# Altium integrated library NSC MiscPower.IntLib: 675 symbols (part 17 of 17)
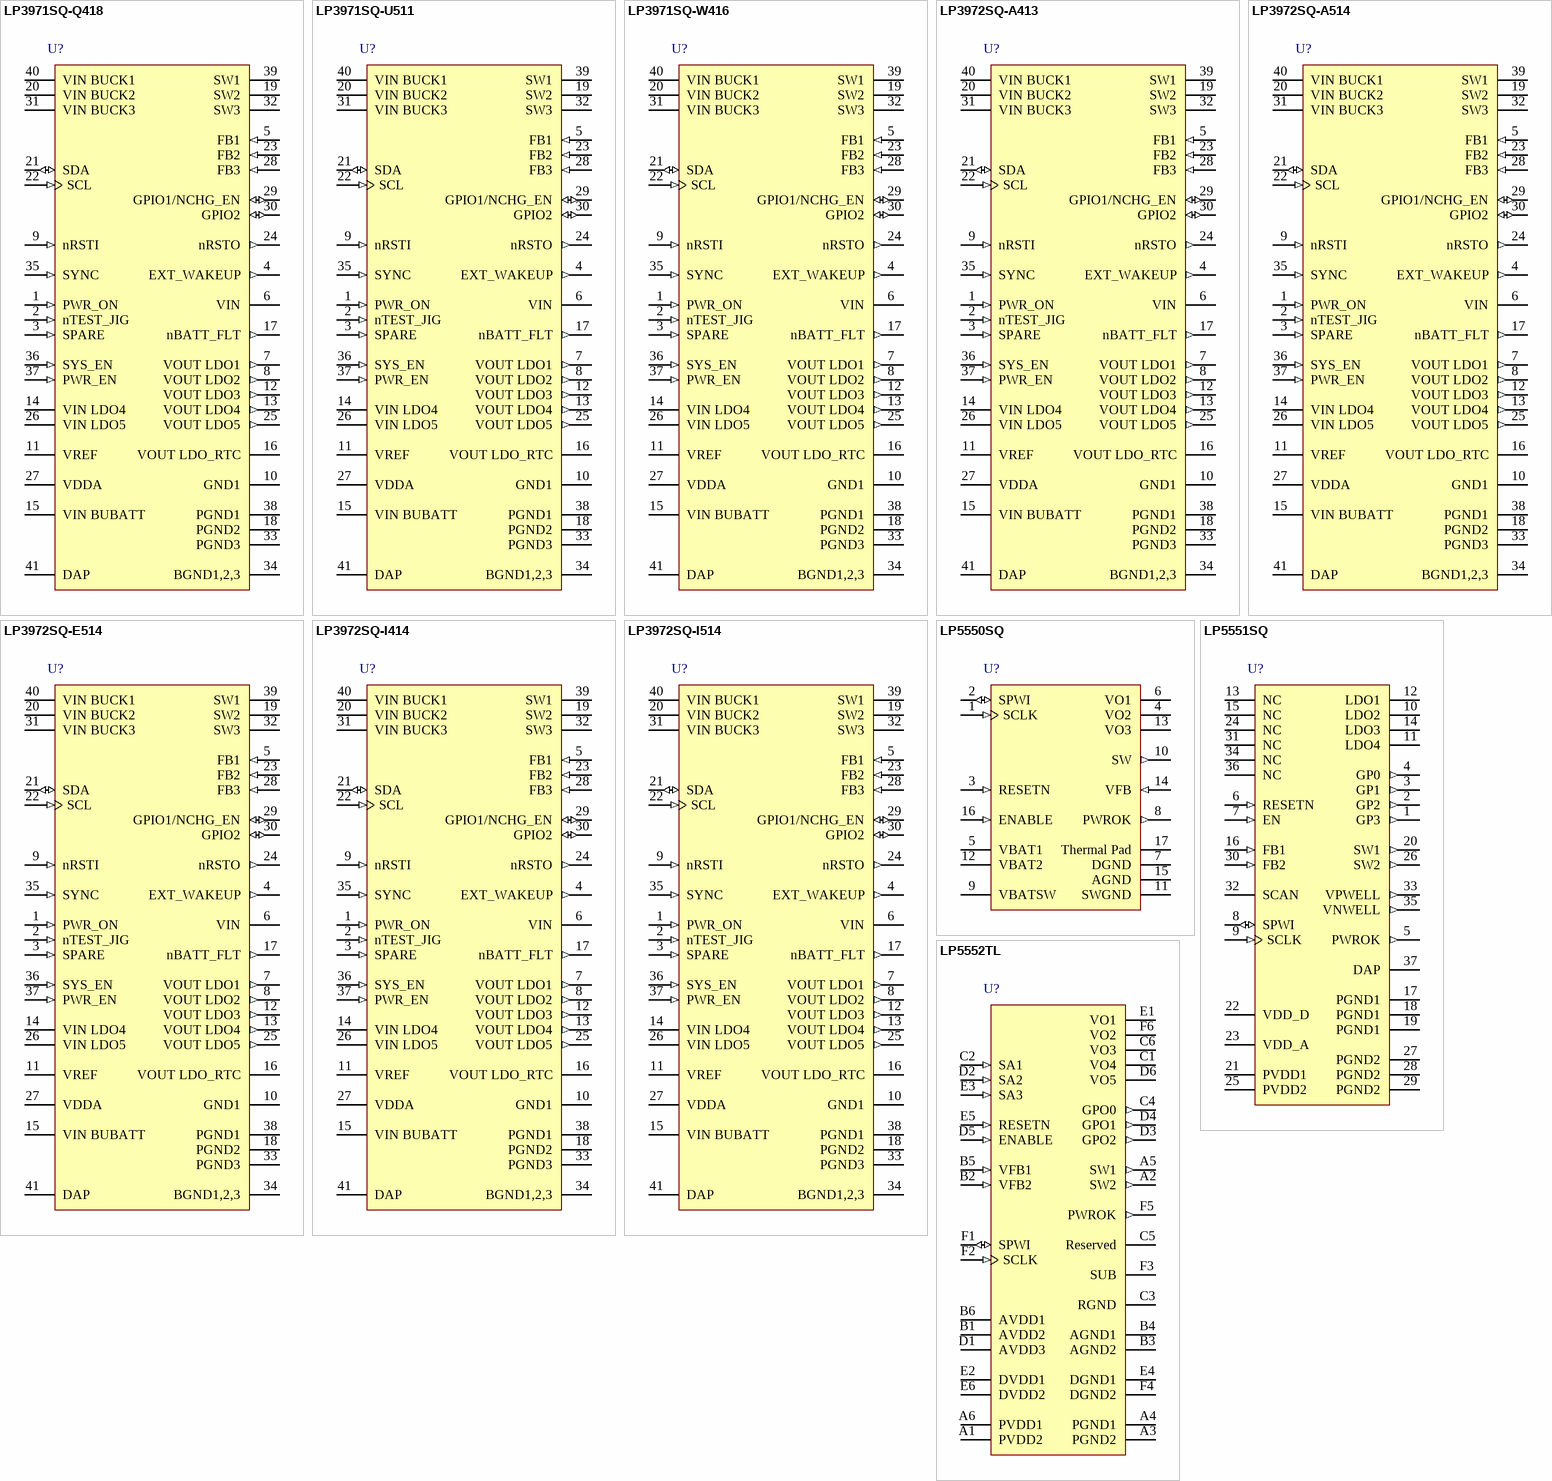
[diagram p38: symbols LP3971SQ-Q418 to LP5552TL]

## LP3971SQ-Q418
designator U?
Power Management Unit for Advanced Application Processors; PartNumber: LP3971SQ-Q418; Manufacturer: National Semiconductor; CompType: MiscPower; PackageTopMarking: NS*UZXYTT*71-Q418; Published: 4-Dec-2008; DatasheetVersion: Jul-2008; PackageVersion: revB, Jul-2004; PackageReference: SQF40A; Publisher: Altium Limited; PackageDescription: LLP, Quad, 5 x 5 x 0.8mm Body, 40 Lead, 0.4mm Pitch, 3.6 x 3.6mm Exposed Pad; RoHS: Y; PinCount: 40; DigiKeyPartNumber: LP3971SQ-Q418CT-ND; ComponentLink1Description: LP3971 Datasheet; ComponentLink1URL: http://www.national.com/ds/LP/LP3971.pdf; ComponentLink2Description: LP3971 Web Page; ComponentLink2URL: http://www.national.com/pf/LP/LP3971.html; ComponentLink3Description: SQF40A Package Page; ComponentLink3URL: http://www.national.com/packaging/folders/sqf40a.html
footprint SQF40A (QFN, 40-Leads, Body 5x5 mm, Pitch 0.4mm, NSC Recommended)
pins: 1 PWR_ON (in), 2 nTEST_JIG (in), 3 SPARE (in), 4 EXT_WAKEUP (out), 5 FB1 (in), 6 VIN (power), 7 VOUT LDO1 (out), 8 VOUT LDO2 (out), 9 nRSTI (in), 10 GND1 (power), 11 VREF, 12 VOUT LDO3 (out), 13 VOUT LDO4 (out), 14 VIN LDO4 (power), 15 VIN BUBATT (power), 16 VOUT LDO_RTC (power), 17 nBATT_FLT (out), 18 PGND2 (power), 19 SW2 (power), 20 VIN BUCK2 (power), 21 SDA (io), 22 SCL (in), 23 FB2 (in), 24 nRSTO (out), 25 VOUT LDO5 (out), 26 VIN LDO5 (power), 27 VDDA (power), 28 FB3 (in), 29 GPIO1/NCHG_EN (io), 30 GPIO2 (io), 31 VIN BUCK3 (power), 32 SW3 (power), 33 PGND3 (power), 34 BGND1,2,3 (power), 35 SYNC (in), 36 SYS_EN (in), 37 PWR_EN (in), 38 PGND1 (power), 39 SW1 (power), 40 VIN BUCK1 (power), 41 DAP (power)

## LP3971SQ-U511
designator U?
Power Management Unit for Advanced Application Processors; PartNumber: LP3971SQ-U511; Manufacturer: National Semiconductor; CompType: MiscPower; PackageTopMarking: NS*UZXYTT*71-U511; Published: 4-Dec-2008; DatasheetVersion: Jul-2008; PackageVersion: revB, Jul-2004; PackageReference: SQF40A; Publisher: Altium Limited; PackageDescription: LLP, Quad, 5 x 5 x 0.8mm Body, 40 Lead, 0.4mm Pitch, 3.6 x 3.6mm Exposed Pad; RoHS: Y; PinCount: 40; ComponentLink1Description: LP3971 Datasheet; ComponentLink1URL: http://www.national.com/ds/LP/LP3971.pdf; ComponentLink2Description: LP3971 Web Page; ComponentLink2URL: http://www.national.com/pf/LP/LP3971.html; ComponentLink3Description: SQF40A Package Page; ComponentLink3URL: http://www.national.com/packaging/folders/sqf40a.html
footprint SQF40A (QFN, 40-Leads, Body 5x5 mm, Pitch 0.4mm, NSC Recommended)
pins: 1 PWR_ON (in), 2 nTEST_JIG (in), 3 SPARE (in), 4 EXT_WAKEUP (out), 5 FB1 (in), 6 VIN (power), 7 VOUT LDO1 (out), 8 VOUT LDO2 (out), 9 nRSTI (in), 10 GND1 (power), 11 VREF, 12 VOUT LDO3 (out), 13 VOUT LDO4 (out), 14 VIN LDO4 (power), 15 VIN BUBATT (power), 16 VOUT LDO_RTC (power), 17 nBATT_FLT (out), 18 PGND2 (power), 19 SW2 (power), 20 VIN BUCK2 (power), 21 SDA (io), 22 SCL (in), 23 FB2 (in), 24 nRSTO (out), 25 VOUT LDO5 (out), 26 VIN LDO5 (power), 27 VDDA (power), 28 FB3 (in), 29 GPIO1/NCHG_EN (io), 30 GPIO2 (io), 31 VIN BUCK3 (power), 32 SW3 (power), 33 PGND3 (power), 34 BGND1,2,3 (power), 35 SYNC (in), 36 SYS_EN (in), 37 PWR_EN (in), 38 PGND1 (power), 39 SW1 (power), 40 VIN BUCK1 (power), 41 DAP (power)

## LP3971SQ-W416
designator U?
Power Management Unit for Advanced Application Processors; PartNumber: LP3971SQ-W416; Manufacturer: National Semiconductor; CompType: MiscPower; PackageTopMarking: NS*UZXYTT*71W416; Published: 4-Dec-2008; DatasheetVersion: Jul-2008; PackageVersion: revB, Jul-2004; PackageReference: SQF40A; Publisher: Altium Limited; PackageDescription: LLP, Quad, 5 x 5 x 0.8mm Body, 40 Lead, 0.4mm Pitch, 3.6 x 3.6mm Exposed Pad; RoHS: Y; PinCount: 40; DigiKeyPartNumber: LP3971SQ-W416CT-ND; ComponentLink1Description: LP3971 Datasheet; ComponentLink1URL: http://www.national.com/ds/LP/LP3971.pdf; ComponentLink2Description: LP3971 Web Page; ComponentLink2URL: http://www.national.com/pf/LP/LP3971.html; ComponentLink3Description: SQF40A Package Page; ComponentLink3URL: http://www.national.com/packaging/folders/sqf40a.html
footprint SQF40A (QFN, 40-Leads, Body 5x5 mm, Pitch 0.4mm, NSC Recommended)
pins: 1 PWR_ON (in), 2 nTEST_JIG (in), 3 SPARE (in), 4 EXT_WAKEUP (out), 5 FB1 (in), 6 VIN (power), 7 VOUT LDO1 (out), 8 VOUT LDO2 (out), 9 nRSTI (in), 10 GND1 (power), 11 VREF, 12 VOUT LDO3 (out), 13 VOUT LDO4 (out), 14 VIN LDO4 (power), 15 VIN BUBATT (power), 16 VOUT LDO_RTC (power), 17 nBATT_FLT (out), 18 PGND2 (power), 19 SW2 (power), 20 VIN BUCK2 (power), 21 SDA (io), 22 SCL (in), 23 FB2 (in), 24 nRSTO (out), 25 VOUT LDO5 (out), 26 VIN LDO5 (power), 27 VDDA (power), 28 FB3 (in), 29 GPIO1/NCHG_EN (io), 30 GPIO2 (io), 31 VIN BUCK3 (power), 32 SW3 (power), 33 PGND3 (power), 34 BGND1,2,3 (power), 35 SYNC (in), 36 SYS_EN (in), 37 PWR_EN (in), 38 PGND1 (power), 39 SW1 (power), 40 VIN BUCK1 (power), 41 DAP (power)

## LP3972SQ-A413
designator U?
Power Management Unit for Advanced Application Processors; PartNumber: LP3972SQ-A413; Manufacturer: National Semiconductor; CompType: MiscPower; PackageTopMarking: NS*UZXYTT*72-A413; Published: 4-Dec-2008; DatasheetVersion: Jan-2008; PackageVersion: revB, Jul-2004; PackageReference: SQF40A; Publisher: Altium Limited; PackageDescription: LLP, Quad, 5 x 5 x 0.8mm Body, 40 Lead, 0.4mm Pitch, 3.6 x 3.6mm Exposed Pad; RoHS: Y; PinCount: 40; DigiKeyPartNumber: LP3972SQ-A413CT-ND; ComponentLink1Description: LP3972 Datasheet; ComponentLink1URL: http://www.national.com/ds/LP/LP3972.pdf; ComponentLink2Description: LP3972 Web Page; ComponentLink2URL: http://www.national.com/pf/LP/LP3972.html; ComponentLink3Description: SQF40A Package Page; ComponentLink3URL: http://www.national.com/packaging/folders/sqf40a.html
footprint SQF40A (QFN, 40-Leads, Body 5x5 mm, Pitch 0.4mm, NSC Recommended)
pins: 1 PWR_ON (in), 2 nTEST_JIG (in), 3 SPARE (in), 4 EXT_WAKEUP (out), 5 FB1 (in), 6 VIN (power), 7 VOUT LDO1 (out), 8 VOUT LDO2 (out), 9 nRSTI (in), 10 GND1 (power), 11 VREF, 12 VOUT LDO3 (out), 13 VOUT LDO4 (out), 14 VIN LDO4 (power), 15 VIN BUBATT (power), 16 VOUT LDO_RTC (power), 17 nBATT_FLT (out), 18 PGND2 (power), 19 SW2 (power), 20 VIN BUCK2 (power), 21 SDA (io), 22 SCL (in), 23 FB2 (in), 24 nRSTO (out), 25 VOUT LDO5 (out), 26 VIN LDO5 (power), 27 VDDA (power), 28 FB3 (in), 29 GPIO1/NCHG_EN (io), 30 GPIO2 (io), 31 VIN BUCK3 (power), 32 SW3 (power), 33 PGND3 (power), 34 BGND1,2,3 (power), 35 SYNC (in), 36 SYS_EN (in), 37 PWR_EN (in), 38 PGND1 (power), 39 SW1 (power), 40 VIN BUCK1 (power), 41 DAP (power)

## LP3972SQ-A514
designator U?
Power Management Unit for Advanced Application Processors; PartNumber: LP3972SQ-A514; Manufacturer: National Semiconductor; CompType: MiscPower; PackageTopMarking: NS*UZXYTT*72-A514; Published: 4-Dec-2008; DatasheetVersion: Jan-2008; PackageVersion: revB, Jul-2004; PackageReference: SQF40A; Publisher: Altium Limited; PackageDescription: LLP, Quad, 5 x 5 x 0.8mm Body, 40 Lead, 0.4mm Pitch, 3.6 x 3.6mm Exposed Pad; RoHS: O; PinCount: 40; DigiKeyPartNumber: LP3972SQ-A514CT-ND; ComponentLink1Description: LP3972 Datasheet; ComponentLink1URL: http://www.national.com/ds/LP/LP3972.pdf; ComponentLink2Description: LP3972 Web Page; ComponentLink2URL: http://www.national.com/pf/LP/LP3972.html; ComponentLink3Description: SQF40A Package Page; ComponentLink3URL: http://www.national.com/packaging/folders/sqf40a.html
footprint SQF40A (QFN, 40-Leads, Body 5x5 mm, Pitch 0.4mm, NSC Recommended)
pins: 1 PWR_ON (in), 2 nTEST_JIG (in), 3 SPARE (in), 4 EXT_WAKEUP (out), 5 FB1 (in), 6 VIN (power), 7 VOUT LDO1 (out), 8 VOUT LDO2 (out), 9 nRSTI (in), 10 GND1 (power), 11 VREF, 12 VOUT LDO3 (out), 13 VOUT LDO4 (out), 14 VIN LDO4 (power), 15 VIN BUBATT (power), 16 VOUT LDO_RTC (power), 17 nBATT_FLT (out), 18 PGND2 (power), 19 SW2 (power), 20 VIN BUCK2 (power), 21 SDA (io), 22 SCL (in), 23 FB2 (in), 24 nRSTO (out), 25 VOUT LDO5 (out), 26 VIN LDO5 (power), 27 VDDA (power), 28 FB3 (in), 29 GPIO1/NCHG_EN (io), 30 GPIO2 (io), 31 VIN BUCK3 (power), 32 SW3 (power), 33 PGND3 (power), 34 BGND1,2,3 (power), 35 SYNC (in), 36 SYS_EN (in), 37 PWR_EN (in), 38 PGND1 (power), 39 SW1 (power), 40 VIN BUCK1 (power), 41 DAP (power)

## LP3972SQ-E514
designator U?
Power Management Unit for Advanced Application Processors; PartNumber: LP3972SQ-E514; Manufacturer: National Semiconductor; CompType: MiscPower; PackageTopMarking: NS*UZXYTT*72-E514; Published: 4-Dec-2008; DatasheetVersion: Jan-2008; PackageVersion: revB, Jul-2004; PackageReference: SQF40A; Publisher: Altium Limited; PackageDescription: LLP, Quad, 5 x 5 x 0.8mm Body, 40 Lead, 0.4mm Pitch, 3.6 x 3.6mm Exposed Pad; RoHS: Y; PinCount: 40; DigiKeyPartNumber: LP3972SQ-E514CT-ND; ComponentLink1Description: LP3972 Datasheet; ComponentLink1URL: http://www.national.com/ds/LP/LP3972.pdf; ComponentLink2Description: LP3972 Web Page; ComponentLink2URL: http://www.national.com/pf/LP/LP3972.html; ComponentLink3Description: SQF40A Package Page; ComponentLink3URL: http://www.national.com/packaging/folders/sqf40a.html
footprint SQF40A (QFN, 40-Leads, Body 5x5 mm, Pitch 0.4mm, NSC Recommended)
pins: 1 PWR_ON (in), 2 nTEST_JIG (in), 3 SPARE (in), 4 EXT_WAKEUP (out), 5 FB1 (in), 6 VIN (power), 7 VOUT LDO1 (out), 8 VOUT LDO2 (out), 9 nRSTI (in), 10 GND1 (power), 11 VREF, 12 VOUT LDO3 (out), 13 VOUT LDO4 (out), 14 VIN LDO4 (power), 15 VIN BUBATT (power), 16 VOUT LDO_RTC (power), 17 nBATT_FLT (out), 18 PGND2 (power), 19 SW2 (power), 20 VIN BUCK2 (power), 21 SDA (io), 22 SCL (in), 23 FB2 (in), 24 nRSTO (out), 25 VOUT LDO5 (out), 26 VIN LDO5 (power), 27 VDDA (power), 28 FB3 (in), 29 GPIO1/NCHG_EN (io), 30 GPIO2 (io), 31 VIN BUCK3 (power), 32 SW3 (power), 33 PGND3 (power), 34 BGND1,2,3 (power), 35 SYNC (in), 36 SYS_EN (in), 37 PWR_EN (in), 38 PGND1 (power), 39 SW1 (power), 40 VIN BUCK1 (power), 41 DAP (power)

## LP3972SQ-I414
designator U?
Power Management Unit for Advanced Application Processors; PartNumber: LP3972SQ-I414; Manufacturer: National Semiconductor; CompType: MiscPower; PackageTopMarking: NS*UZXYTT*72-I414; Published: 4-Dec-2008; DatasheetVersion: Jan-2008; PackageVersion: revB, Jul-2004; PackageReference: SQF40A; Publisher: Altium Limited; PackageDescription: LLP, Quad, 5 x 5 x 0.8mm Body, 40 Lead, 0.4mm Pitch, 3.6 x 3.6mm Exposed Pad; RoHS: Y; PinCount: 40; ComponentLink1Description: LP3972 Datasheet; ComponentLink1URL: http://www.national.com/ds/LP/LP3972.pdf; ComponentLink2Description: LP3972 Web Page; ComponentLink2URL: http://www.national.com/pf/LP/LP3972.html; ComponentLink3Description: SQF40A Package Page; ComponentLink3URL: http://www.national.com/packaging/folders/sqf40a.html
footprint SQF40A (QFN, 40-Leads, Body 5x5 mm, Pitch 0.4mm, NSC Recommended)
pins: 1 PWR_ON (in), 2 nTEST_JIG (in), 3 SPARE (in), 4 EXT_WAKEUP (out), 5 FB1 (in), 6 VIN (power), 7 VOUT LDO1 (out), 8 VOUT LDO2 (out), 9 nRSTI (in), 10 GND1 (power), 11 VREF, 12 VOUT LDO3 (out), 13 VOUT LDO4 (out), 14 VIN LDO4 (power), 15 VIN BUBATT (power), 16 VOUT LDO_RTC (power), 17 nBATT_FLT (out), 18 PGND2 (power), 19 SW2 (power), 20 VIN BUCK2 (power), 21 SDA (io), 22 SCL (in), 23 FB2 (in), 24 nRSTO (out), 25 VOUT LDO5 (out), 26 VIN LDO5 (power), 27 VDDA (power), 28 FB3 (in), 29 GPIO1/NCHG_EN (io), 30 GPIO2 (io), 31 VIN BUCK3 (power), 32 SW3 (power), 33 PGND3 (power), 34 BGND1,2,3 (power), 35 SYNC (in), 36 SYS_EN (in), 37 PWR_EN (in), 38 PGND1 (power), 39 SW1 (power), 40 VIN BUCK1 (power), 41 DAP (power)

## LP3972SQ-I514
designator U?
Power Management Unit for Advanced Application Processors; PartNumber: LP3972SQ-I514; Manufacturer: National Semiconductor; CompType: MiscPower; PackageTopMarking: NS*UZXYTT*72-I514; Published: 4-Dec-2008; DatasheetVersion: Jan-2008; PackageVersion: revB, Jul-2004; PackageReference: SQF40A; Publisher: Altium Limited; PackageDescription: LLP, Quad, 5 x 5 x 0.8mm Body, 40 Lead, 0.4mm Pitch, 3.6 x 3.6mm Exposed Pad; RoHS: O; PinCount: 40; DigiKeyPartNumber: LP3972SQ-I514EV-ND; ComponentLink1Description: LP3972 Datasheet; ComponentLink1URL: http://www.national.com/ds/LP/LP3972.pdf; ComponentLink2Description: LP3972 Web Page; ComponentLink2URL: http://www.national.com/pf/LP/LP3972.html; ComponentLink3Description: SQF40A Package Page; ComponentLink3URL: http://www.national.com/packaging/folders/sqf40a.html
footprint SQF40A (QFN, 40-Leads, Body 5x5 mm, Pitch 0.4mm, NSC Recommended)
pins: 1 PWR_ON (in), 2 nTEST_JIG (in), 3 SPARE (in), 4 EXT_WAKEUP (out), 5 FB1 (in), 6 VIN (power), 7 VOUT LDO1 (out), 8 VOUT LDO2 (out), 9 nRSTI (in), 10 GND1 (power), 11 VREF, 12 VOUT LDO3 (out), 13 VOUT LDO4 (out), 14 VIN LDO4 (power), 15 VIN BUBATT (power), 16 VOUT LDO_RTC (power), 17 nBATT_FLT (out), 18 PGND2 (power), 19 SW2 (power), 20 VIN BUCK2 (power), 21 SDA (io), 22 SCL (in), 23 FB2 (in), 24 nRSTO (out), 25 VOUT LDO5 (out), 26 VIN LDO5 (power), 27 VDDA (power), 28 FB3 (in), 29 GPIO1/NCHG_EN (io), 30 GPIO2 (io), 31 VIN BUCK3 (power), 32 SW3 (power), 33 PGND3 (power), 34 BGND1,2,3 (power), 35 SYNC (in), 36 SYS_EN (in), 37 PWR_EN (in), 38 PGND1 (power), 39 SW1 (power), 40 VIN BUCK1 (power), 41 DAP (power)

## LP5550SQ
designator U?
PowerWise Technology Compliant Energy Management Unit; PartNumber: LP5550SQ; Manufacturer: National Semiconductor; CompType: MiscPower; PackageTopMarking: NS*UZXYTT*L5550SQ; Published: 4-Dec-2008; DatasheetVersion: Jan-2006; PackageVersion: revA, Oct-2003; PackageReference: SQA16A; Publisher: Altium Limited; PackageDescription: LLP, Plastic, Quad, 4 x 4 x 0.8mm Body, 16 Lead, 0.5mm Pitch, No Pullback; RoHS: Y; PinCount: 16; DigiKeyPartNumber: LP5550SQCT-ND; ComponentLink1Description: LP5550 Datasheet; ComponentLink1URL: http://www.national.com/ds/LP/LP5550.pdf; ComponentLink2Description: LP5550 Web Page; ComponentLink2URL: http://www.national.com/pf/LP/LP5550.html; ComponentLink3Description: SQA16A Package Page; ComponentLink3URL: http://www.national.com/packaging/folders/sqa16a.html
footprint SQA16A (QFN, 16-Leads, Body 4x4mm, Pitch 0.5mm, NSC Recommended)
pins: 1 SCLK (in), 2 SPWI (io), 3 RESETN (in), 4 VO2 (power), 5 VBAT1 (power), 6 VO1 (power), 7 DGND (power), 8 PWROK (out), 9 VBATSW (power), 10 SW (out), 11 SWGND (power), 12 VBAT2 (power), 13 VO3 (power), 14 VFB (in), 15 AGND (power), 16 ENABLE (in), 17 Thermal Pad (power)

## LP5551SQ
designator U?
PowerWise Technology Compliant Energy Management Unit; PartNumber: LP5551SQ; Manufacturer: National Semiconductor; CompType: MiscPower; PackageTopMarking: NS*UZXYTT*LP5551SQ; Published: 4-Dec-2008; DatasheetVersion: Dec-2006; PackageVersion: revA, Jun-2003; PackageReference: SQA36A; Publisher: Altium Limited; PackageDescription: LLP, Plastic, Quad, 6 x 6 x 0.8mm Body, 36 Lead, 0.5mm Pitch, No Pullback; RoHS: Y; PinCount: 36; DigiKeyPartNumber: LP5551SQEV-ND; ComponentLink1Description: LP5551 Datasheet; ComponentLink1URL: http://www.national.com/ds/LP/LP5551.pdf; ComponentLink2Description: LP5551 Web Page; ComponentLink2URL: http://www.national.com/pf/LP/LP5551.html; ComponentLink3Description: SQA36A Package Page; ComponentLink3URL: http://www.national.com/packaging/folders/sqa36a.html
footprint SQA36A (QFN, 36-Leads, Body 6x6mm, Pitch 0.5mm, NSC Recommended)
pins: 1 GP3 (out), 2 GP2 (out), 3 GP1 (out), 4 GP0 (out), 5 PWROK (out), 6 RESETN (in), 7 EN (in), 8 SPWI (io), 9 SCLK (in), 10 LDO2 (power), 11 LDO4 (power), 12 LDO1 (power), 13 NC, 14 LDO3 (power), 15 NC, 16 FB1 (in), 17 PGND1 (power), 18 PGND1 (power), 19 PGND1 (power), 20 SW1 (out), 21 PVDD1 (power), 22 VDD_D (power), 23 VDD_A (power), 24 NC, 25 PVDD2 (power), 26 SW2 (out), 27 PGND2 (power), 28 PGND2 (power), 29 PGND2 (power), 30 FB2 (in), 31 NC, 32 SCAN, 33 VPWELL (out), 34 NC, 35 VNWELL (out), 36 NC, 37 DAP (power)

## LP5552TL
designator U?
PWI 2.0 and PowerWise Technology Compliant Energy Management Unit; PartNumber: LP5552TL; Manufacturer: National Semiconductor; CompType: MiscPower; PackageTopMarking: XYTT*I SLKB; Published: 4-Dec-2008; DatasheetVersion: May-2008; PackageVersion: revC, Dec-2003; PackageReference: TLA36TTA; Publisher: Altium Limited; PackageDescription: Thin Micro SMD, 36 Bump (Large), 0.5mm Pitch; RoHS: Y; PinCount: 36; DigiKeyPartNumber: LP5552TLEV-ND; Code_JEDEC: MO-211-DK; ComponentLink1Description: LP5552 Datasheet; ComponentLink1URL: http://www.national.com/ds/LP/LP5552.pdf; ComponentLink2Description: LP5552 Web Page; ComponentLink2URL: http://www.national.com/pf/LP/LP5552.html; ComponentLink3Description: TLA36TTA Package Page; ComponentLink3URL: http://www.national.com/packaging/folders/tla36tta.html
footprint TLA36TTA (Micro SMD, 36-Leads, Body 3.46x3.46mm, Pitch 0.5mm, NSC Recommended)
pins: A1 PVDD2 (power), A2 SW2 (out), A3 PGND2 (power), A4 PGND1 (power), A5 SW1 (out), A6 PVDD1 (power), B1 AVDD2 (power), B2 VFB2 (in), B3 AGND2 (power), B4 AGND1 (power), B5 VFB1 (in), B6 AVDD1 (power), C1 VO4 (power), C2 SA1 (in), C3 RGND (power), C4 GPO0 (out), C5 Reserved (power), C6 VO3 (power), D1 AVDD3 (power), D2 SA2 (in), D3 GPO2 (out), D4 GPO1 (out), D5 ENABLE (in), D6 VO5 (power), E1 VO1 (power), E2 DVDD1 (power), E3 SA3 (in), E4 DGND1 (power), E5 RESETN (in), E6 DVDD2 (power), F1 SPWI (io), F2 SCLK (in), F3 SUB (power), F4 DGND2 (power), F5 PWROK (out), F6 VO2 (power)

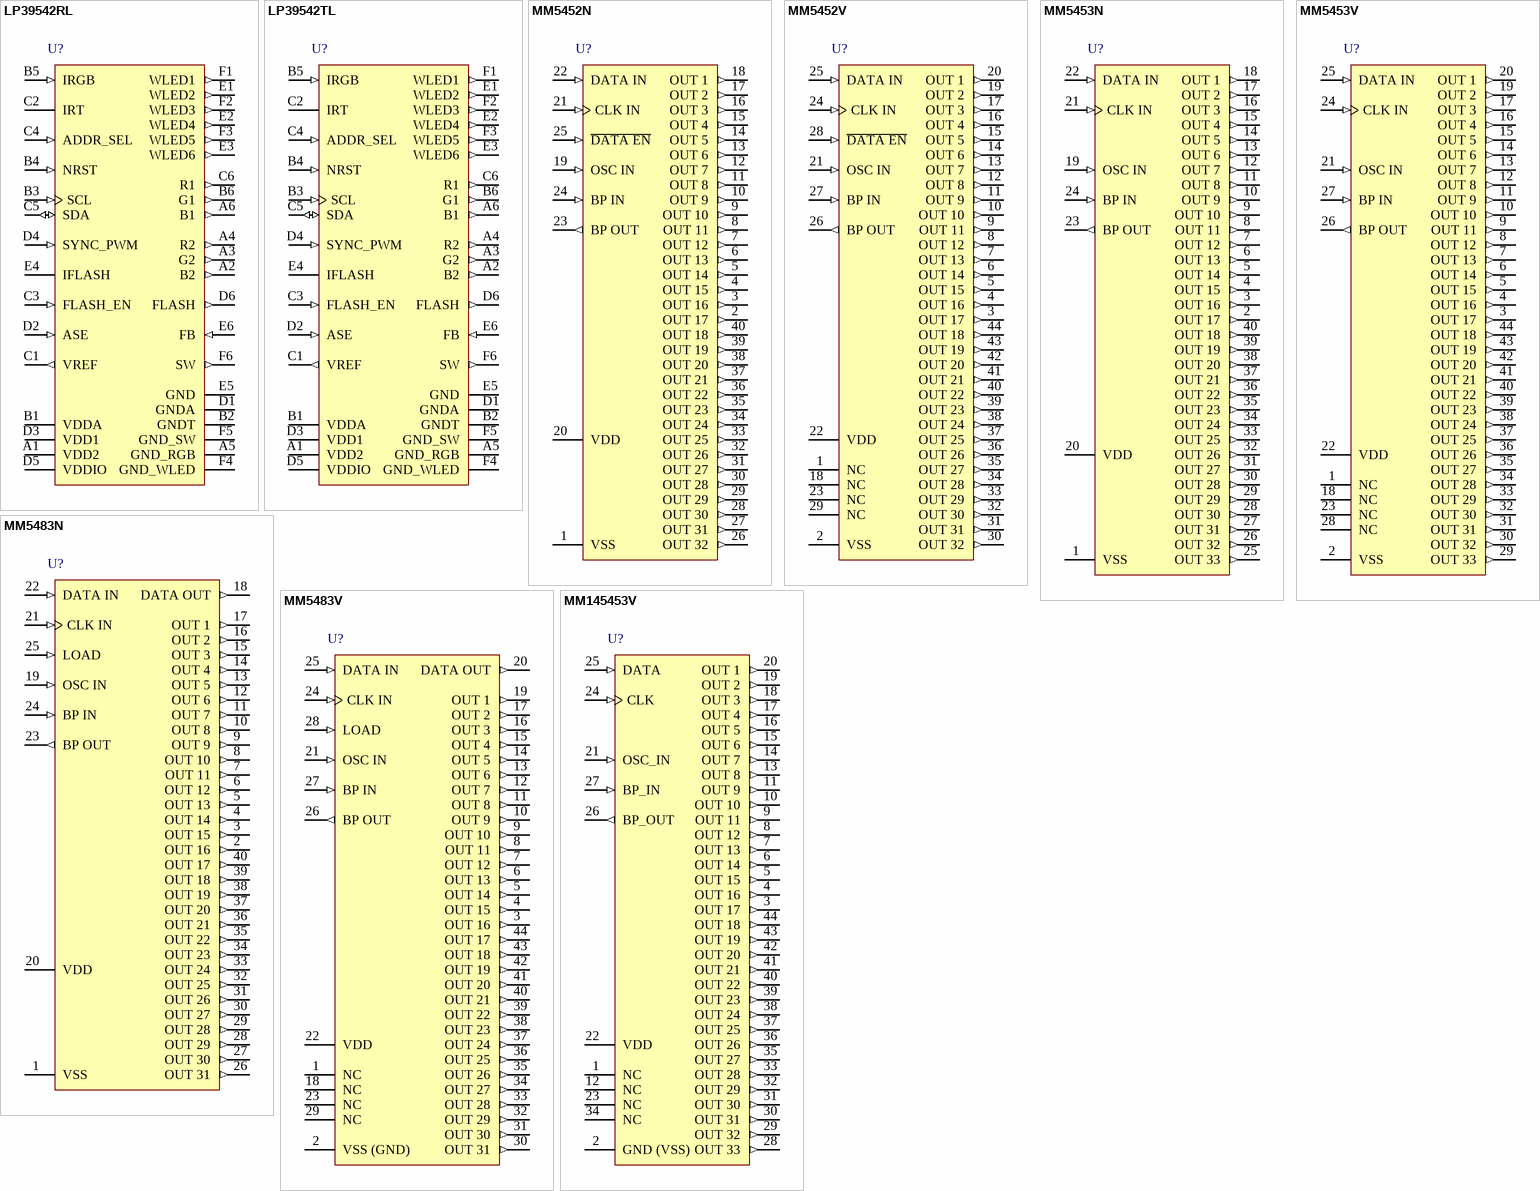
[diagram p22: symbols LP39542RL to MM145453V]

## LP39542RL
designator U?
Advanced Lighting Management Unit; PartNumber: LP39542RL; Manufacturer: National Semiconductor; CompType: MiscPower; PackageTopMarking: XYTT*I D60B; Published: 4-Dec-2008; DatasheetVersion: Aug-2007; PackageVersion: Aug-2007; PackageReference: RLA36AAA; Publisher: Altium Limited; PackageDescription: Micro SMDxt, 36 Bump (Large), 0.5mm Pitch; RoHS: Y; PinCount: 36; DigiKeyPartNumber: LP39542RL-ND; ComponentLink1Description: LP39542 Datasheet; ComponentLink1URL: http://www.national.com/ds/LP/LP39542.pdf; ComponentLink2Description: LP39542 Web Page; ComponentLink2URL: http://www.national.com/pf/LP/LP39542.html; ComponentLink3Description: RLA36AAA Package Page; ComponentLink3URL: http://www.national.com/packaging/folders/rla36aaa.html
footprint RLA36AAA (Micro SMD, 36-Leads, Body 3x3mm, Pitch 0.5mm, NSC Recommended)
pins: A1 VDD2 (power), A2 B2 (out), A3 G2 (out), A4 R2 (out), A5 GND_RGB (power), A6 B1 (out), B1 VDDA (power), B2 GNDT (power), B3 SCL (in), B4 NRST (in), B5 IRGB (in), B6 G1 (out), C1 VREF (out), C2 IRT, C3 FLASH_EN (in), C4 ADDR_SEL (in), C5 SDA (io), C6 R1 (out), D1 GNDA (power), D2 ASE (in), D3 VDD1 (power), D4 SYNC_PWM (in), D5 VDDIO (power), D6 FLASH (out), E1 WLED2 (out), E2 WLED4 (out), E3 WLED6 (out), E4 IFLASH, E5 GND (power), E6 FB (in), F1 WLED1 (out), F2 WLED3 (out), F3 WLED5 (out), F4 GND_WLED (power), F5 GND_SW (power), F6 SW (out)

## LP39542TL
designator U?
Advanced Lighting Management Unit; PartNumber: LP39542TL; Manufacturer: National Semiconductor; CompType: MiscPower; PackageTopMarking: XYTT*I D58B; Published: 4-Dec-2008; DatasheetVersion: Aug-2007; PackageVersion: revC, Dec-2003; PackageReference: TLA36AAA; Publisher: Altium Limited; PackageDescription: Thin Micro SMD, 36 Bump (Large), 0.5mm Pitch; RoHS: Y; PinCount: 36; DigiKeyPartNumber: LP39542TLCT-ND; Code_JEDEC: MO-211-DK; ComponentLink1Description: LP39542 Datasheet; ComponentLink1URL: http://www.national.com/ds/LP/LP39542.pdf; ComponentLink2Description: LP39542 Web Page; ComponentLink2URL: http://www.national.com/pf/LP/LP39542.html; ComponentLink3Description: TLA36AAA Package Page; ComponentLink3URL: http://www.national.com/packaging/folders/tla36aaa.html
footprint TLA36AAA (Micro SMD, 36-Leads, Body 3x3mm, Pitch 0.5mm, NSC Recommended)
pins: A1 VDD2 (power), A2 B2 (out), A3 G2 (out), A4 R2 (out), A5 GND_RGB (power), A6 B1 (out), B1 VDDA (power), B2 GNDT (power), B3 SCL (in), B4 NRST (in), B5 IRGB (in), B6 G1 (out), C1 VREF (out), C2 IRT, C3 FLASH_EN (in), C4 ADDR_SEL (in), C5 SDA (io), C6 R1 (out), D1 GNDA (power), D2 ASE (in), D3 VDD1 (power), D4 SYNC_PWM (in), D5 VDDIO (power), D6 FLASH (out), E1 WLED2 (out), E2 WLED4 (out), E3 WLED6 (out), E4 IFLASH, E5 GND (power), E6 FB (in), F1 WLED1 (out), F2 WLED3 (out), F3 WLED5 (out), F4 GND_WLED (power), F5 GND_SW (power), F6 SW (out)

## MM5452N
designator U?
Liquid Crystal Display Drivers; PartNumber: MM5452N; Manufacturer: National Semiconductor; CompType: MiscPower; PackageTopMarking: NSUZXYYTTE#*MM5452N; Published: 4-Dec-2008; DatasheetVersion: Dec-2001; PackageVersion: revE, Nov-1983; PackageReference: N40A; Publisher: Altium Limited; PackageDescription: 40 Lead Molded Dip (N); RoHS: O; PinCount: 40; DigiKeyPartNumber: MM5452N-ND; ComponentLink1Description: MM5452 Datasheet; ComponentLink1URL: http://www.national.com/ds/MM/MM5452.pdf; ComponentLink2Description: MM5452 Web Page; ComponentLink2URL: http://www.national.com/pf/MM/MM5452.html; ComponentLink3Description: N40A Package Page; ComponentLink3URL: http://www.national.com/packaging/folders/n40a.html
footprint N40A (DIP, 40-Leads, Row Spacing 15.24mm, Pitch 2.54mm, Body 52.24x13.97mm)
pins: 1 VSS (power), 2 OUT 17 (out), 3 OUT 16 (out), 4 OUT 15 (out), 5 OUT 14 (out), 6 OUT 13 (out), 7 OUT 12 (out), 8 OUT 11 (out), 9 OUT 10 (out), 10 OUT 9 (out), 11 OUT 8 (out), 12 OUT 7 (out), 13 OUT 6 (out), 14 OUT 5 (out), 15 OUT 4 (out), 16 OUT 3 (out), 17 OUT 2 (out), 18 OUT 1 (out), 19 OSC IN (in), 20 VDD (power), 21 CLK IN (in), 22 DATA IN (in), 23 BP OUT (out), 24 BP IN (in), 25 ~{DATA EN} (in), 26 OUT 32 (out), 27 OUT 31 (out), 28 OUT 30 (out), 29 OUT 29 (out), 30 OUT 28 (out), 31 OUT 27 (out), 32 OUT 26 (out), 33 OUT 25 (out), 34 OUT 24 (out), 35 OUT 23 (out), 36 OUT 22 (out), 37 OUT 21 (out), 38 OUT 20 (out), 39 OUT 19 (out), 40 OUT 18 (out)

## MM5452V
designator U?
Liquid Crystal Display Drivers; PartNumber: MM5452V; Manufacturer: National Semiconductor; CompType: MiscPower; PackageTopMarking: NSUZXYYTTE#*MM5452V; Published: 4-Dec-2008; DatasheetVersion: Dec-2001; PackageVersion: revK, Dec-1993; PackageReference: V44A; Publisher: Altium Limited; PackageDescription: Plastic Chip Carrier, Sq, .050in Pitch, 44 Lead; RoHS: O; PinCount: 44; DigiKeyPartNumber: MM5452V-ND; Code_IPC: PLCC-44; ComponentLink1Description: MM5452 Datasheet; ComponentLink1URL: http://www.national.com/ds/MM/MM5452.pdf; ComponentLink2Description: MM5452 Web Page; ComponentLink2URL: http://www.national.com/pf/MM/MM5452.html; ComponentLink3Description: V44A Package Page; ComponentLink3URL: http://www.national.com/packaging/folders/v44a.html
footprint V44A_N (Leaded Chip Carrier, 44-Leads, Body 16.6x16.6mm, Pitch 1.27mm, IPC Medium Density)
footprint V44A_L (Leaded Chip Carrier, 44-Leads, Body 16.6x16.6mm, Pitch 1.27mm, IPC High Density)
footprint V44A_M (Leaded Chip Carrier, 44-Leads, Body 16.6x16.6mm, Pitch 1.27mm, IPC Low Density)
pins: 1 NC, 2 VSS (power), 3 OUT 17 (out), 4 OUT 16 (out), 5 OUT 15 (out), 6 OUT 14 (out), 7 OUT 13 (out), 8 OUT 12 (out), 9 OUT 11 (out), 10 OUT 10 (out), 11 OUT 9 (out), 12 OUT 8 (out), 13 OUT 7 (out), 14 OUT 6 (out), 15 OUT 5 (out), 16 OUT 4 (out), 17 OUT 3 (out), 18 NC, 19 OUT 2 (out), 20 OUT 1 (out), 21 OSC IN (in), 22 VDD (power), 23 NC, 24 CLK IN (in), 25 DATA IN (in), 26 BP OUT (out), 27 BP IN (in), 28 ~{DATA EN} (in), 29 NC, 30 OUT 32 (out), 31 OUT 31 (out), 32 OUT 30 (out), 33 OUT 29 (out), 34 OUT 28 (out), 35 OUT 27 (out), 36 OUT 26 (out), 37 OUT 25 (out), 38 OUT 24 (out), 39 OUT 23 (out), 40 OUT 22 (out), 41 OUT 21 (out), 42 OUT 20 (out), 43 OUT 19 (out), 44 OUT 18 (out)

## MM5453N
designator U?
Liquid Crystal Display Drivers; PartNumber: MM5453N; Manufacturer: National Semiconductor; CompType: MiscPower; PackageTopMarking: NSUZXYYTTE#*MM5453N; Published: 4-Dec-2008; DatasheetVersion: Dec-2001; PackageVersion: revE, Nov-1983; PackageReference: N40A; Publisher: Altium Limited; PackageDescription: 40 Lead Molded Dip (N); RoHS: O; PinCount: 40; DigiKeyPartNumber: MM5453N-ND; ComponentLink1Description: MM5453 Datasheet; ComponentLink1URL: http://www.national.com/ds/MM/MM5453.pdf; ComponentLink2Description: MM5453 Web Page; ComponentLink2URL: http://www.national.com/pf/MM/MM5453.html; ComponentLink3Description: N40A Package Page; ComponentLink3URL: http://www.national.com/packaging/folders/n40a.html
footprint N40A (DIP, 40-Leads, Row Spacing 15.24mm, Pitch 2.54mm, Body 52.24x13.97mm)
pins: 1 VSS (power), 2 OUT 17 (out), 3 OUT 16 (out), 4 OUT 15 (out), 5 OUT 14 (out), 6 OUT 13 (out), 7 OUT 12 (out), 8 OUT 11 (out), 9 OUT 10 (out), 10 OUT 9 (out), 11 OUT 8 (out), 12 OUT 7 (out), 13 OUT 6 (out), 14 OUT 5 (out), 15 OUT 4 (out), 16 OUT 3 (out), 17 OUT 2 (out), 18 OUT 1 (out), 19 OSC IN (in), 20 VDD (power), 21 CLK IN (in), 22 DATA IN (in), 23 BP OUT (out), 24 BP IN (in), 25 OUT 33 (out), 26 OUT 32 (out), 27 OUT 31 (out), 28 OUT 30 (out), 29 OUT 29 (out), 30 OUT 28 (out), 31 OUT 27 (out), 32 OUT 26 (out), 33 OUT 25 (out), 34 OUT 24 (out), 35 OUT 23 (out), 36 OUT 22 (out), 37 OUT 21 (out), 38 OUT 20 (out), 39 OUT 19 (out), 40 OUT 18 (out)

## MM5453V
designator U?
Liquid Crystal Display Drivers; PartNumber: MM5453V; Manufacturer: National Semiconductor; CompType: MiscPower; PackageTopMarking: NSUZXYYTTE#*MM5453V; Published: 4-Dec-2008; DatasheetVersion: Dec-2001; PackageVersion: revK, Dec-1993; PackageReference: V44A; Publisher: Altium Limited; PackageDescription: Plastic Chip Carrier, Sq, .050in Pitch, 44 Lead; RoHS: O; PinCount: 44; DigiKeyPartNumber: MM5453V-ND; Code_IPC: PLCC-44; ComponentLink1Description: MM5453 Datasheet; ComponentLink1URL: http://www.national.com/ds/MM/MM5453.pdf; ComponentLink2Description: MM5453 Web Page; ComponentLink2URL: http://www.national.com/pf/MM/MM5453.html; ComponentLink3Description: V44A Package Page; ComponentLink3URL: http://www.national.com/packaging/folders/v44a.html
footprint V44A_N (Leaded Chip Carrier, 44-Leads, Body 16.6x16.6mm, Pitch 1.27mm, IPC Medium Density)
footprint V44A_L (Leaded Chip Carrier, 44-Leads, Body 16.6x16.6mm, Pitch 1.27mm, IPC High Density)
footprint V44A_M (Leaded Chip Carrier, 44-Leads, Body 16.6x16.6mm, Pitch 1.27mm, IPC Low Density)
pins: 1 NC, 2 VSS (power), 3 OUT 17 (out), 4 OUT 16 (out), 5 OUT 15 (out), 6 OUT 14 (out), 7 OUT 13 (out), 8 OUT 12 (out), 9 OUT 11 (out), 10 OUT 10 (out), 11 OUT 9 (out), 12 OUT 8 (out), 13 OUT 7 (out), 14 OUT 6 (out), 15 OUT 5 (out), 16 OUT 4 (out), 17 OUT 3 (out), 18 NC, 19 OUT 2 (out), 20 OUT 1 (out), 21 OSC IN (in), 22 VDD (power), 23 NC, 24 CLK IN (in), 25 DATA IN (in), 26 BP OUT (out), 27 BP IN (in), 28 NC, 29 OUT 33 (out), 30 OUT 32 (out), 31 OUT 31 (out), 32 OUT 30 (out), 33 OUT 29 (out), 34 OUT 28 (out), 35 OUT 27 (out), 36 OUT 26 (out), 37 OUT 25 (out), 38 OUT 24 (out), 39 OUT 23 (out), 40 OUT 22 (out), 41 OUT 21 (out), 42 OUT 20 (out), 43 OUT 19 (out), 44 OUT 18 (out)

## MM5483N
designator U?
Liquid Crystal Display Driver; PartNumber: MM5483N; Manufacturer: National Semiconductor; CompType: MiscPower; PackageTopMarking: NSUZXYYTTE#*MM5483N; Published: 4-Dec-2008; DatasheetVersion: May-2002; PackageVersion: revE, Nov-1983; PackageReference: N40A; Publisher: Altium Limited; PackageDescription: 40 Lead Molded Dip (N); RoHS: O; PinCount: 40; DigiKeyPartNumber: MM5483N-ND; ComponentLink1Description: MM5483 Datasheet; ComponentLink1URL: http://www.national.com/ds/MM/MM5483.pdf; ComponentLink2Description: MM5483 Web Page; ComponentLink2URL: http://www.national.com/pf/MM/MM5483.html; ComponentLink3Description: N40A Package Page; ComponentLink3URL: http://www.national.com/packaging/folders/n40a.html
footprint N40A (DIP, 40-Leads, Row Spacing 15.24mm, Pitch 2.54mm, Body 52.24x13.97mm)
pins: 1 VSS (power), 2 OUT 16 (out), 3 OUT 15 (out), 4 OUT 14 (out), 5 OUT 13 (out), 6 OUT 12 (out), 7 OUT 11 (out), 8 OUT 10 (out), 9 OUT 9 (out), 10 OUT 8 (out), 11 OUT 7 (out), 12 OUT 6 (out), 13 OUT 5 (out), 14 OUT 4 (out), 15 OUT 3 (out), 16 OUT 2 (out), 17 OUT 1 (out), 18 DATA OUT (out), 19 OSC IN (in), 20 VDD (power), 21 CLK IN (in), 22 DATA IN (in), 23 BP OUT (out), 24 BP IN (in), 25 LOAD (in), 26 OUT 31 (out), 27 OUT 30 (out), 28 OUT 29 (out), 29 OUT 28 (out), 30 OUT 27 (out), 31 OUT 26 (out), 32 OUT 25 (out), 33 OUT 24 (out), 34 OUT 23 (out), 35 OUT 22 (out), 36 OUT 21 (out), 37 OUT 20 (out), 38 OUT 19 (out), 39 OUT 18 (out), 40 OUT 17 (out)

## MM5483V
designator U?
Liquid Crystal Display Driver; PartNumber: MM5483V; Manufacturer: National Semiconductor; CompType: MiscPower; PackageTopMarking: NSUZXYYTTE#*MM5483V; Published: 4-Dec-2008; DatasheetVersion: May-2002; PackageVersion: revK, Dec-1993; PackageReference: V44A; Publisher: Altium Limited; PackageDescription: Plastic Chip Carrier, Sq, .050in Pitch, 44 Lead; RoHS: O; PinCount: 44; DigiKeyPartNumber: MM5483V-ND; Code_IPC: PLCC-44; ComponentLink1Description: MM5483 Datasheet; ComponentLink1URL: http://www.national.com/ds/MM/MM5483.pdf; ComponentLink2Description: MM5483 Web Page; ComponentLink2URL: http://www.national.com/pf/MM/MM5483.html; ComponentLink3Description: V44A Package Page; ComponentLink3URL: http://www.national.com/packaging/folders/v44a.html
footprint V44A_N (Leaded Chip Carrier, 44-Leads, Body 16.6x16.6mm, Pitch 1.27mm, IPC Medium Density)
footprint V44A_L (Leaded Chip Carrier, 44-Leads, Body 16.6x16.6mm, Pitch 1.27mm, IPC High Density)
footprint V44A_M (Leaded Chip Carrier, 44-Leads, Body 16.6x16.6mm, Pitch 1.27mm, IPC Low Density)
pins: 1 NC, 2 VSS (GND) (power), 3 OUT 16 (out), 4 OUT 15 (out), 5 OUT 14 (out), 6 OUT 13 (out), 7 OUT 12 (out), 8 OUT 11 (out), 9 OUT 10 (out), 10 OUT 9 (out), 11 OUT 8 (out), 12 OUT 7 (out), 13 OUT 6 (out), 14 OUT 5 (out), 15 OUT 4 (out), 16 OUT 3 (out), 17 OUT 2 (out), 18 NC, 19 OUT 1 (out), 20 DATA OUT (out), 21 OSC IN (in), 22 VDD (power), 23 NC, 24 CLK IN (in), 25 DATA IN (in), 26 BP OUT (out), 27 BP IN (in), 28 LOAD (in), 29 NC, 30 OUT 31 (out), 31 OUT 30 (out), 32 OUT 29 (out), 33 OUT 28 (out), 34 OUT 27 (out), 35 OUT 26 (out), 36 OUT 25 (out), 37 OUT 24 (out), 38 OUT 23 (out), 39 OUT 22 (out), 40 OUT 21 (out), 41 OUT 20 (out), 42 OUT 19 (out), 43 OUT 18 (out), 44 OUT 17 (out)

## MM145453V
designator U?
Liquid Crystal Display Driver; PartNumber: MM145453V; Manufacturer: National Semiconductor; CompType: MiscPower; PackageTopMarking: NSUZXYYTTE#*MM145453V; Published: 4-Dec-2008; DatasheetVersion: May-2000; PackageVersion: revK, Dec-1993; PackageReference: V44A; Publisher: Altium Limited; PackageDescription: Plastic Chip Carrier, Sq, .050in Pitch, 44 Lead; RoHS: O; PinCount: 44; DigiKeyPartNumber: MM145453V-ND; Code_IPC: PLCC-44; ComponentLink1Description: MM145453 Datasheet; ComponentLink1URL: http://www.national.com/ds/MM/MM145453.pdf; ComponentLink2Description: MM145453 Web Page; ComponentLink2URL: http://www.national.com/pf/MM/MM145453.html; ComponentLink3Description: V44A Package Page; ComponentLink3URL: http://www.national.com/packaging/folders/v44a.html
footprint V44A_N (Leaded Chip Carrier, 44-Leads, Body 16.6x16.6mm, Pitch 1.27mm, IPC Medium Density)
footprint V44A_L (Leaded Chip Carrier, 44-Leads, Body 16.6x16.6mm, Pitch 1.27mm, IPC High Density)
footprint V44A_M (Leaded Chip Carrier, 44-Leads, Body 16.6x16.6mm, Pitch 1.27mm, IPC Low Density)
pins: 1 NC, 2 GND (VSS) (power), 3 OUT 17 (out), 4 OUT 16 (out), 5 OUT 15 (out), 6 OUT 14 (out), 7 OUT 13 (out), 8 OUT 12 (out), 9 OUT 11 (out), 10 OUT 10 (out), 11 OUT 9 (out), 12 NC, 13 OUT 8 (out), 14 OUT 7 (out), 15 OUT 6 (out), 16 OUT 5 (out), 17 OUT 4 (out), 18 OUT 3 (out), 19 OUT 2 (out), 20 OUT 1 (out), 21 OSC_IN (in), 22 VDD (power), 23 NC, 24 CLK (in), 25 DATA (in), 26 BP_OUT (out), 27 BP_IN (in), 28 OUT 33 (out), 29 OUT 32 (out), 30 OUT 31 (out), 31 OUT 30 (out), 32 OUT 29 (out), 33 OUT 28 (out), 34 NC, 35 OUT 27 (out), 36 OUT 26 (out), 37 OUT 25 (out), 38 OUT 24 (out), 39 OUT 23 (out), 40 OUT 22 (out), 41 OUT 21 (out), 42 OUT 20 (out), 43 OUT 19 (out), 44 OUT 18 (out)